# Altium schematic symbol library Resistors.SchLib: 9 symbols
Pins are listed as number, name and electrical type; pins without a type are passive.

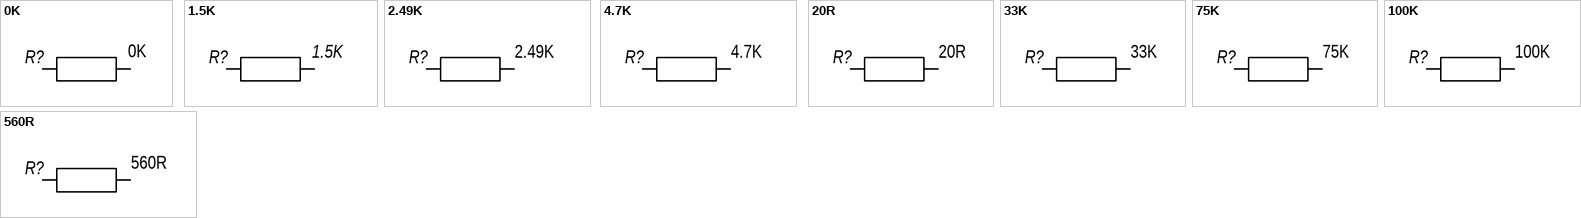
[diagram p0: symbols 0K to 560R]

## 0K
designator R?
Резистор номиналом 0 Ом
footprint RESC0805 (Chip Resistor, 2-Leads, Body 2,00x1,25mm, IPC Medium Density)
pins: 1, 2

## 1.5K
designator R?
Резистор номиналом 1.5 кОм
footprint RESC0805 (Chip Resistor, 2-Leads, Body 2,00x1,25mm, IPC Medium Density)
pins: 1, 2

## 2.49K
designator R?
Резистор номиналом 2.49 кОм
footprint RESC0805 (Chip Resistor, 2-Leads, Body 2,00x1,25mm, IPC Medium Density)
pins: 1, 2

## 4.7K
designator R?
Резистор номиналом 4.7 кОм
footprint RESC0805 (Chip Resistor, 2-Leads, Body 2,00x1,25mm, IPC Medium Density)
pins: 1, 2

## 20R
designator R?
Резистор номиналом 20 Ом
footprint RESC0805 (Chip Resistor, 2-Leads, Body 2,00x1,25mm, IPC Medium Density)
pins: 1, 2

## 33K
designator R?
Резистор номиналом 33 кОм
footprint RESC0805 (Chip Resistor, 2-Leads, Body 2,00x1,25mm, IPC Medium Density)
pins: 1, 2

## 75K
designator R?
Резистор номиналом 75 кОм
footprint RESC0805 (Chip Resistor, 2-Leads, Body 2,00x1,25mm, IPC Medium Density)
pins: 1, 2

## 100K
designator R?
Резистор номиналом 100 кОм
footprint RESC0805 (Chip Resistor, 2-Leads, Body 2,00x1,25mm, IPC Medium Density)
pins: 1, 2

## 560R
designator R?
Резистор номиналом 560 Ом
footprint RESC0805 (Chip Resistor, 2-Leads, Body 2,00x1,25mm, IPC Medium Density)
pins: 1, 2